# Altium schematic symbol library MAX17048G+T10.Schlib: 1 symbol
Pins are listed as number, name and electrical type; pins without a type are passive.

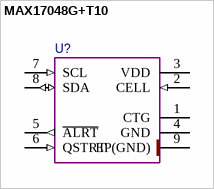
[diagram p0: symbol MAX17048G+T10]

## MAX17048G+T10
designator U?  (value not drawn)
3μA 1-Cell/2-Cell Fuel Gauge with ModelGauge
pins: 1 CTG, 2 CELL (in), 3 VDD (power), 4 GND (power), 5 ~{ALRT} (out), 6 QSTRT (in), 7 SCL (in), 8 SDA (io), 9 EP(GND) (power)